# Altium schematic symbol library Components.SchLib: 18 symbols
Pins are listed as number, name and electrical type; pins without a type are passive.

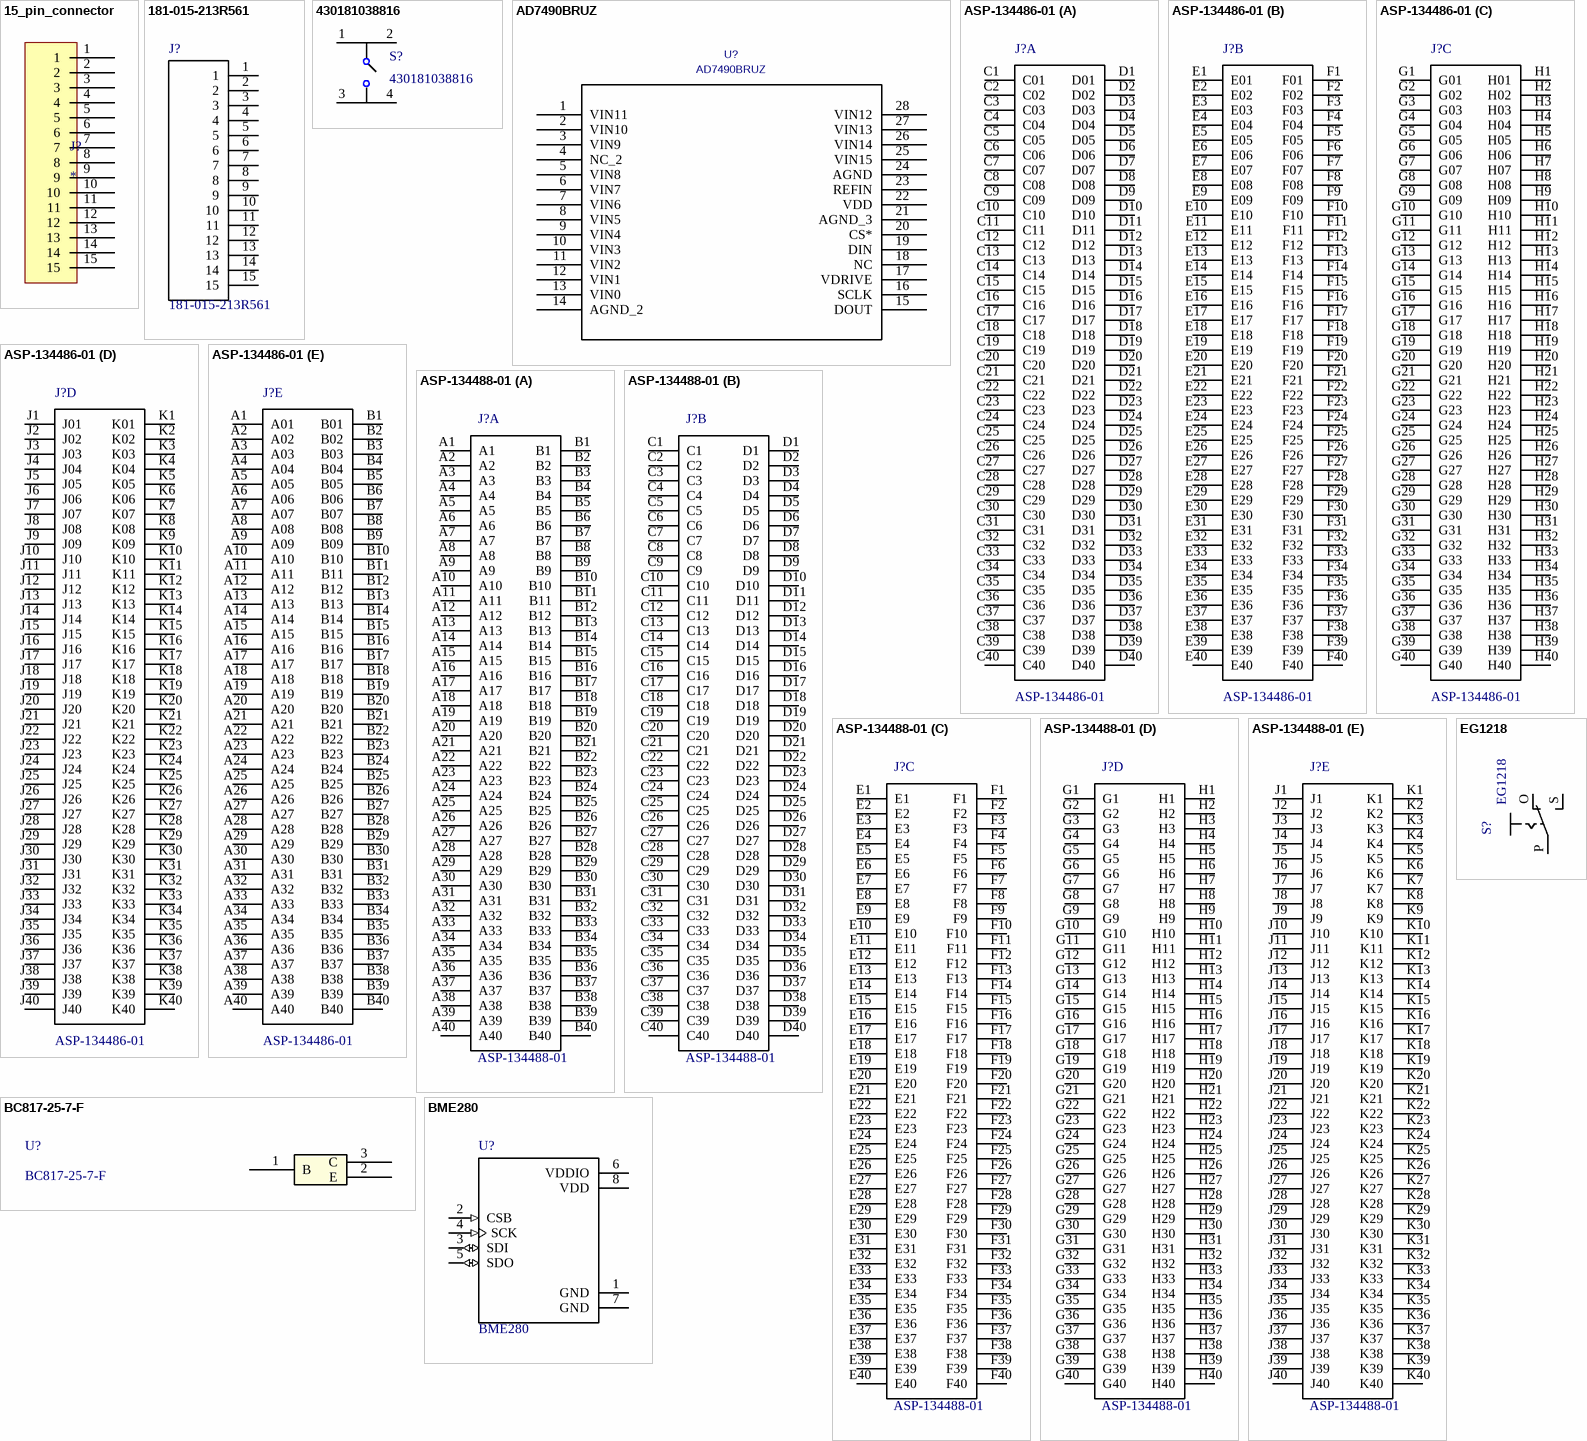
[diagram p0: symbols 15_pin_connector to EG1218]

## 15_pin_connector
designator J?
15 pin connector
footprint *NORCOMP_181-015-213R561
pins: 1, 2, 3, 4, 5, 6, 7, 8, 9, 10, 11, 12, 13, 14, 15

## 181-015-213R561
designator J?
15 Position D-Sub, High Density Receptacle, Female Sockets Connector; MF: NorComp Inc.; Availability: Unavailable; Price: None; MP: 181-015-213R561; Package: None; SnapEDA_Link: https://www.snapeda.com/parts/181-015-213R561/NorComp%20Inc./view-part/560830/?ref=snap; Value: *
footprint *NORCOMP_181-015-213R561
pins: 1, 2, 3, 4, 5, 6, 7, 8, 9, 10, 11, 12, 13, 14, 15

## 430181038816
designator S?
Tactile Switch SPST-NO Top Actuated Surface Mount; MF: Wurth Electronics; Package: None; MP: 430181038816; Price: None; Availability: Unavailable; SnapEDA_Link: https://www.snapeda.com/parts/430181038816/Wurth%20Electronics%20Inc./view-part/523500/?ref=snap; Value: *
footprint *430181038816
pins: 1, 2 3, 3 2, 4

## AD7490BRUZ
designator U?
C: Copyright (C) 2015 Accelerated Designs. All rights reserved; Vendor: Analog Devices Inc; Built_By: EMA_UL_Team; Value: AD7490BRUZ; Manufacturer_Part_Number: AD7490BRUZ
footprint *SOP65P640X120-28N
pins: 1 VIN11, 2 VIN10, 3 VIN9, 4 NC_2, 5 VIN8, 6 VIN7, 7 VIN6, 8 VIN5, 9 VIN4, 10 VIN3, 11 VIN2, 12 VIN1, 13 VIN0, 14 AGND_2, 15 DOUT, 16 SCLK, 17 VDRIVE, 18 NC, 19 DIN, 20 CS*, 21 AGND_3, 22 VDD (power), 23 REFIN, 24 AGND, 25 VIN15, 26 VIN14, 27 VIN13, 28 VIN12

## ASP-134486-01
designator J?
400 Position Connector Array, Female Sockets Surface Mount Gold; MF: Samtec Inc.; MP: ASP-134486-01; Digi-Key_Purchase_URL: https://www.digikey.com/product-detail/en/samtec-inc/ASP-134486-01/SAM8728CT-ND/2135095?utm_source=snapeda&utm_medium=aggregator&utm_campaign=symbol; SnapEDA_Link: https://www.snapeda.com/parts/ASP-134486-01/Samtec%20Inc./view-part/898249/?ref=snap; Package: None; Digi-Key_Part_Number: SAM8728CT-ND; Value: *
footprint SAMTEC_ASP-134486-01_ASP-134486-01(Primary)
part A pins: C1 C01, C2 C02, C3 C03, C4 C04, C5 C05, C6 C06, C7 C07, C8 C08, C9 C09, C10, C11, C12, C13, C14, C15, C16, C17, C18, C19, C20, C21, C22, C23, C24, C25, C26, C27, C28, C29, C30, C31, C32, C33, C34, C35, C36, C37, C38, C39, C40, D1 D01, D2 D02, D3 D03, D4 D04, D5 D05, D6 D06, D7 D07, D8 D08, D9 D09, D10, D11, D12, D13, D14, D15, D16, D17, D18, D19, D20, D21, D22, D23, D24, D25, D26, D27, D28, D29, D30, D31, D32, D33, D34, D35, D36, D37, D38, D39, D40
part B pins: E1 E01, E2 E02, E3 E03, E4 E04, E5 E05, E6 E06, E7 E07, E8 E08, E9 E09, E10, E11, E12, E13, E14, E15, E16, E17, E18, E19, E20, E21, E22, E23, E24, E25, E26, E27, E28, E29, E30, E31, E32, E33, E34, E35, E36, E37, E38, E39, E40, F1 F01, F2 F02, F3 F03, F4 F04, F5 F05, F6 F06, F7 F07, F8 F08, F9 F09, F10, F11, F12, F13, F14, F15, F16, F17, F18, F19, F20, F21, F22, F23, F24, F25, F26, F27, F28, F29, F30, F31, F32, F33, F34, F35, F36, F37, F38, F39, F40
part C pins: G1 G01, G2 G02, G3 G03, G4 G04, G5 G05, G6 G06, G7 G07, G8 G08, G9 G09, G10, G11, G12, G13, G14, G15, G16, G17, G18, G19, G20, G21, G22, G23, G24, G25, G26, G27, G28, G29, G30, G31, G32, G33, G34, G35, G36, G37, G38, G39, G40, H1 H01, H2 H02, H3 H03, H4 H04, H5 H05, H6 H06, H7 H07, H8 H08, H9 H09, H10, H11, H12, H13, H14, H15, H16, H17, H18, H19, H20, H21, H22, H23, H24, H25, H26, H27, H28, H29, H30, H31, H32, H33, H34, H35, H36, H37, H38, H39, H40
part D pins: J1 J01, J2 J02, J3 J03, J4 J04, J5 J05, J6 J06, J7 J07, J8 J08, J9 J09, J10, J11, J12, J13, J14, J15, J16, J17, J18, J19, J20, J21, J22, J23, J24, J25, J26, J27, J28, J29, J30, J31, J32, J33, J34, J35, J36, J37, J38, J39, J40, K1 K01, K2 K02, K3 K03, K4 K04, K5 K05, K6 K06, K7 K07, K8 K08, K9 K09, K10, K11, K12, K13, K14, K15, K16, K17, K18, K19, K20, K21, K22, K23, K24, K25, K26, K27, K28, K29, K30, K31, K32, K33, K34, K35, K36, K37, K38, K39, K40
part E pins: A1 A01, A2 A02, A3 A03, A4 A04, A5 A05, A6 A06, A7 A07, A8 A08, A9 A09, A10, A11, A12, A13, A14, A15, A16, A17, A18, A19, A20, A21, A22, A23, A24, A25, A26, A27, A28, A29, A30, A31, A32, A33, A34, A35, A36, A37, A38, A39, A40, B1 B01, B2 B02, B3 B03, B4 B04, B5 B05, B6 B06, B7 B07, B8 B08, B9 B09, B10, B11, B12, B13, B14, B15, B16, B17, B18, B19, B20, B21, B22, B23, B24, B25, B26, B27, B28, B29, B30, B31, B32, B33, B34, B35, B36, B37, B38, B39, B40

## ASP-134488-01
designator J?
FMC HPC Connector; SnapEDA_Link: https://www.snapeda.com/parts/ASP-134488-01/Samtec%20Inc./view-part/423215/?ref=snap; Value: *
footprint *SAMTEC_ASP-134488-01_ASP-134488-01(Primary)
part A pins: A1, A2, A3, A4, A5, A6, A7, A8, A9, A10, A11, A12, A13, A14, A15, A16, A17, A18, A19, A20, A21, A22, A23, A24, A25, A26, A27, A28, A29, A30, A31, A32, A33, A34, A35, A36, A37, A38, A39, A40, B1, B2, B3, B4, B5, B6, B7, B8, B9, B10, B11, B12, B13, B14, B15, B16, B17, B18, B19, B20, B21, B22, B23, B24, B25, B26, B27, B28, B29, B30, B31, B32, B33, B34, B35, B36, B37, B38, B39, B40
part B pins: C1, C2, C3, C4, C5, C6, C7, C8, C9, C10, C11, C12, C13, C14, C15, C16, C17, C18, C19, C20, C21, C22, C23, C24, C25, C26, C27, C28, C29, C30, C31, C32, C33, C34, C35, C36, C37, C38, C39, C40, D1, D2, D3, D4, D5, D6, D7, D8, D9, D10, D11, D12, D13, D14, D15, D16, D17, D18, D19, D20, D21, D22, D23, D24, D25, D26, D27, D28, D29, D30, D31, D32, D33, D34, D35, D36, D37, D38, D39, D40
part C pins: E1, E2, E3, E4, E5, E6, E7, E8, E9, E10, E11, E12, E13, E14, E15, E16, E17, E18, E19, E20, E21, E22, E23, E24, E25, E26, E27, E28, E29, E30, E31, E32, E33, E34, E35, E36, E37, E38, E39, E40, F1, F2, F3, F4, F5, F6, F7, F8, F9, F10, F11, F12, F13, F14, F15, F16, F17, F18, F19, F20, F21, F22, F23, F24, F25, F26, F27, F28, F29, F30, F31, F32, F33, F34, F35, F36, F37, F38, F39, F40
part D pins: G1, G2, G3, G4, G5, G6, G7, G8, G9, G10, G11, G12, G13, G14, G15, G16, G17, G18, G19, G20, G21, G22, G23, G24, G25, G26, G27, G28, G29, G30, G31, G32, G33, G34, G35, G36, G37, G38, G39, G40, H1, H2, H3, H4, H5, H6, H7, H8, H9, H10, H11, H12, H13, H14, H15, H16, H17, H18, H19, H20, H21, H22, H23, H24, H25, H26, H27, H28, H29, H30, H31, H32, H33, H34, H35, H36, H37, H38, H39, H40
part E pins: J1, J2, J3, J4, J5, J6, J7, J8, J9, J10, J11, J12, J13, J14, J15, J16, J17, J18, J19, J20, J21, J22, J23, J24, J25, J26, J27, J28, J29, J30, J31, J32, J33, J34, J35, J36, J37, J38, J39, J40, K1, K2, K3, K4, K5, K6, K7, K8, K9, K10, K11, K12, K13, K14, K15, K16, K17, K18, K19, K20, K21, K22, K23, K24, K25, K26, K27, K28, K29, K30, K31, K32, K33, K34, K35, K36, K37, K38, K39, K40

## BC817-25-7-F
designator U?
NPN Transistor; Vendor: Diodes Inc; Built_By: EMA_UL_Team; Manufacturer_Part_Number: BC817-25-7-F; Copyright: Copyright (C) 2018 Accelerated Designs. All rights reserved; RefDes: RefDes; Type: DEV; Value: Value
footprint *SOT23
pins: 1 B, 2 E, 3 C

## BME280
designator U?
/ Humidity Temperature Sensor 0 ~ 100% RH IÂ²C, SPI Â±3% 1s Surface Mount /; MF: Bosch; Availability: Unavailable; Package: LGA-8 Bosch; MP: BME280; SnapEDA_Link: https://www.snapeda.com/parts/BME280/Bosch%20Sensortec/view-part/49769/?ref=snap; Price: None; Value: *
footprint *PSON65P250X250X100-8N
pins: 1 GND (power), 2 CSB (in), 3 SDI (io), 4 SCK (in), 5 SDO (io), 6 VDDIO (power), 7 GND (power), 8 VDD (power)

## EG1218
designator S?
Slide Switch SPDT Through Hole; MF: E-Switch; Package: FakePackage u; Digi-Key_Part_Number: EG1903-ND; MP: EG1218; SnapEDA_Link: https://www.snapeda.com/parts/EG1218/E-Switch/view-part/13895/?ref=snap; Digi-Key_Purchase_URL: https://www.digikey.com/product-detail/en/e-switch/EG1218/EG1903-ND/101726?utm_source=snapeda&utm_medium=aggregator&utm_campaign=symbol; Value: *
footprint *EG1218_EG1218(Primary)
pins: O, P, S

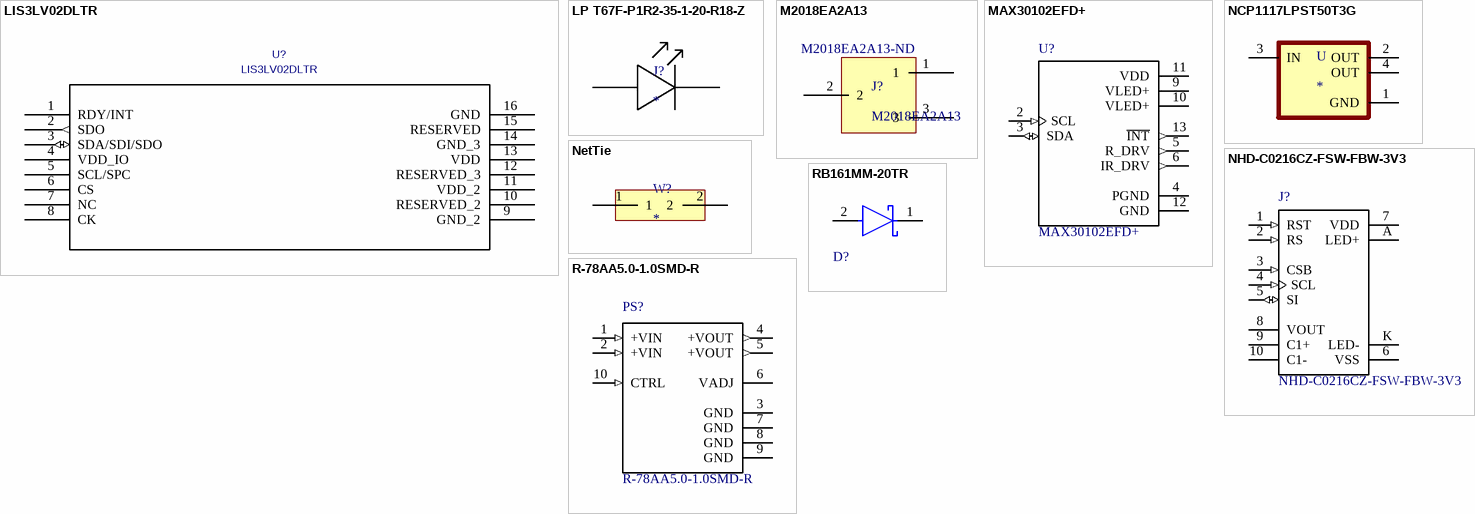
[diagram p1: symbols LIS3LV02DLTR to RB161MM-20TR]

## LIS3LV02DLTR
designator U?
ACCELEROMETER 2-6G I2C/SPI 16LGA; C: Copyright (C) 2015 Accelerated Designs. All rights reserved; Vendor: STMicroelectronics; Built_By: EMA_UL_Team; Value: LIS3LV02DLTR; Manufacturer_Part_Number: LIS3LV02DLTR
footprint LGA-16_4P4X7P5X1
pins: 1 RDY/INT, 2 SDO (out), 3 SDA/SDI/SDO (io), 4 VDD_IO (power), 5 SCL/SPC, 6 CS, 7 NC, 8 CK, 9 GND_2 (power), 10 RESERVED_2, 11 VDD_2 (power), 12 RESERVED_3, 13 VDD (power), 14 GND_3 (power), 15 RESERVED, 16 GND (power)

## LP T67F-P1R2-35-1-20-R18-Z
designator J?
SMD LED
footprint LP T67F-P1R2-35-1-20-R18-Z
pins: A, C

## M2018EA2A13
designator J?  Supplier Part Number 1: M2018EA2A13-ND
SWITCH TOGGLE SPDT 6A 125V; Manufacturer: NKK Switches; Mechanical Life: 50000Cycles; Actuator Material: Brass,Chrome; Voltage Rating (DC): 30V; Current Rating: 3A; Max Voltage Rating (AC): 250V; Contact Resistance: 20mR; Illumination Type: Non-Illuminated; Electrical Life: 25000Cycles; Switch Function: Mom-Off-Mom; Actuator Length: 13.21mm; Supplier 1: Digi-Key; Manufacturer Part Number: M2018EA2A13; RoHS: Yes; Category: Toggle Switches; Stock 1: 87; Pricing 1: 1=7.80000, 10=7.41000, 25=7.21520, 50=7.02000, 100=6.82500, 250=6.43500, 500=5.46000, 1000=5.16750 (USD); Mount: Through Hole,Brackets; Contact Plating: Gold; Contact Material: Silver; Min Operating Temperature: -30°C; Max Operating Temperature: 85°C; Throw Configuration: SPDT; Package Quantity: 1; Voltage Rating (AC): 125V; Termination: PC Pin; Packaging: Bulk; Max Voltage Rating (DC): 30V; Life (Cycles): 50000Cycles; Orientation: Straight; Lead Free: Lead Free; ComponentLink1URL: https://datasheet.ciiva.com/2907/mtogglesbracketpc-2907069.pdf?src-supplier=Digi-Key; ComponentLink1Description: https://datasheet.ciiva.com/2907/mtogglesbracketpc-2907069.pdf?src-supplier=Digi-Key
footprint M2018EA2A13 (SWITCH TOGGLE SPDT 6A 125V)
pins: 1, 2, 3

## MAX30102EFD+
designator U?
/ Oximeter/Heart Rate Sensor IÂ²C Output /; MF: Maxim Integrated; Price: None; MP: MAX30102EFD+; SnapEDA_Link: https://www.snapeda.com/parts/MAX30102EFD%2B/Maxim%20Integrated/view-part/397548/?ref=snap; Package: OLGA-14 Maxim; Availability: Unavailable; Value: *
footprint MAX30201
pins: 2 SCL (in), 3 SDA (io), 4 PGND (power), 5 R_DRV (out), 6 IR_DRV (out), 9 VLED+ (power), 10 VLED+ (power), 11 VDD (power), 12 GND (power), 13 ~{INT} (out)

## NCP1117LPST50T3G
designator U
Linear Voltage Regulator IC 1 Output 1A SOT-223; MP: NCP1117LPST50T3G; MF: ON Semiconductor; Digi-Key_Purchase_URL: https://www.digikey.com/product-detail/en/on-semiconductor/NCP1117LPST50T3G/NCP1117LPST50T3GOSCT-ND/5801728?utm_source=snapeda&utm_medium=aggregator&utm_campaign=symbol; Package: SOT-223 ON Semiconductor; SnapEDA_Link: https://www.snapeda.com/parts/NCP1117LPST50T3G/ON%20Semiconductor/view-part/451805/?ref=snap; Value: *; Digi-Key_Part_Number: NCP1117LPST50T3GOSCT-ND
footprint SOT230P700X180-4N
pins: 1 GND (power), 2 OUT, 3 IN, 4 OUT

## NetTie
designator W?  (net tie, no BOM)
footprint NetTie
pins: 1, 2

## NHD-C0216CZ-FSW-FBW-3V3
designator J?
Character LCD Display Module Transflective 5 x 8 Dots FSTN - Film Super-Twisted Nematic LED - White Serial 41.40mm x 24.30mm x 4.00mm; MF: Newhaven Display; Package: None; Digi-Key_Part_Number: NHD-C0216CZ-FSW-FBW-3V3-ND; MP: NHD-C0216CZ-FSW-FBW-3V3; SnapEDA_Link: https://www.snapeda.com/parts/NHD-C0216CZ-FSW-FBW-3V3/Newhaven%20Display%20Intl/view-part/217645/?ref=snap; Digi-Key_Purchase_URL: https://www.digikey.com/product-detail/en/newhaven-display-intl/NHD-C0216CZ-FSW-FBW-3V3/NHD-C0216CZ-FSW-FBW-3V3-ND/2059234?utm_source=snapeda&utm_medium=aggregator&utm_campaign=symbol; Value: *
footprint *LCD_NHD-C0216CZ-FSW-FBW-3V3_NHD-C0216CZ-FSW-FBW-3V3(Primary)
pins: 1 RST (in), 2 RS (in), 3 CSB (in), 4 SCL (in), 5 SI (io), 6 VSS (power), 7 VDD (power), 8 VOUT, 9 C1+, 10 C1-, A LED+ (power), K LED- (power)

## R-78AA5.0-1.0SMD-R
designator PS?
1A DC/DC-Converter 'INNOLINE' SMD reg; MF: Recom Power; SnapEDA_Link: https://www.snapeda.com/parts/R-78AA5.0-1.0SMD-R/Recom%20Power/view-part/480105/?ref=snap; MP: R-78AA5.0-1.0SMD-R; Package: SMD-10 Recom Power; Availability: Unavailable; Price: None; Value: *
footprint *CONV_R-78AA5.0-1.0SMD-R
pins: 1 +VIN (in), 2 +VIN (in), 3 GND (power), 4 +VOUT (out), 5 +VOUT (out), 6 VADJ, 7 GND (power), 8 GND (power), 9 GND (power), 10 CTRL (in)

## RB161MM-20TR
designator D?  (value not drawn)
footprint Rohm_PMDU_MFG
pins: 1 C, 2 A